# Altium schematic symbol library analog.SchLib: 53 symbols
Pins are listed as number, name and electrical type; pins without a type are passive.

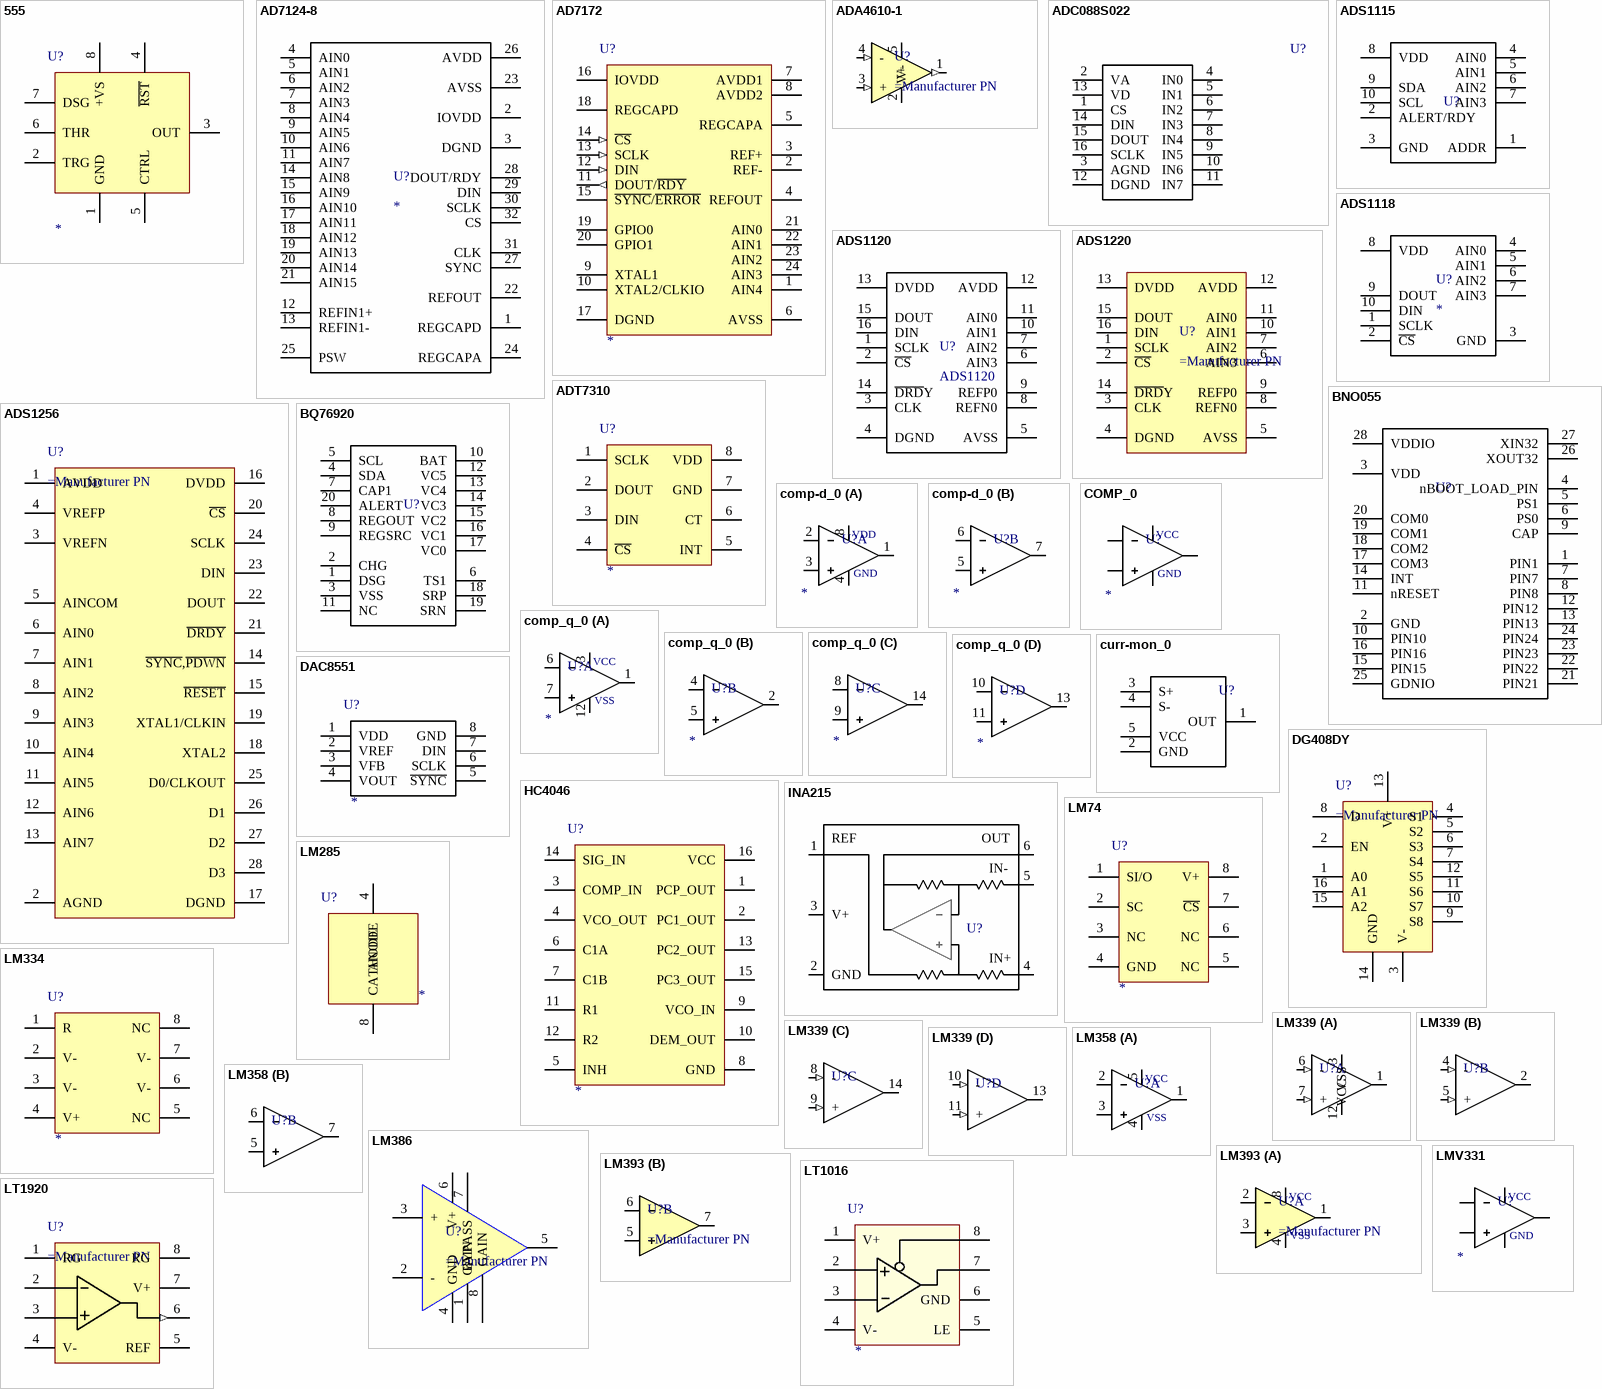
[diagram p0: symbols 555 to LT1920]

## 555
designator U?
555 Timer; Manufacturer PN: *
pins: 1 GND, 2 TRG, 3 OUT, 4 ~{RST}, 5 CTRL, 6 THR, 7 DSG, 8 +VS

## AD7124-8
designator U?
pins: 1 REGCAPD, 2 IOVDD, 3 DGND, 4 AIN0, 5 AIN1, 6 AIN2, 7 AIN3, 8 AIN4, 9 AIN5, 10 AIN6, 11 AIN7, 12 REFIN1+, 13 REFIN1-, 14 AIN8, 15 AIN9, 16 AIN10, 17 AIN11, 18 AIN12, 19 AIN13, 20 AIN14, 21 AIN15, 22 REFOUT, 23 AVSS, 24 REGCAPA, 25 PSW, 26 AVDD, 27 SYNC, 28 DOUT/RDY, 29 DIN, 30 SCLK, 31 CLK, 32 CS

## AD7172
designator U?
ADC 24-bit 4-channel; Manufacturer PN: *
pins: 1 AIN4, 2 REF-, 3 REF+, 4 REFOUT, 5 REGCAPA, 6 AVSS (power), 7 AVDD1 (power), 8 AVDD2 (power), 9 XTAL1, 10 XTAL2/CLKIO, 11 DOUT/~{RDY} (out), 12 DIN (in), 13 SCLK (in), 14 ~{CS} (in), 15 ~{SYNC}/~{ERROR}, 16 IOVDD (power), 17 DGND (power), 18 REGCAPD, 19 GPIO0, 20 GPIO1, 21 AIN0, 22 AIN1, 23 AIN2, 24 AIN3

## ADA4610-1
designator U?
Single JFET Op Amp
pins: 1 (out), 2 V- (power), 3 + (in), 4 - (in), 5 V+ (power)

## ADC088S022
designator U?  (value not drawn)
pins: 1 CS, 2 VA, 3 AGND, 4 IN0, 5 IN1, 6 IN2, 7 IN3, 8 IN4, 9 IN5, 10 IN6, 11 IN7, 12 DGND, 13 VD, 14 DIN, 15 DOUT, 16 SCLK

## ADS1115
designator U?  (value not drawn)
pins: 1 ADDR, 2 ALERT/RDY, 3 GND, 4 AIN0, 5 AIN1, 6 AIN2, 7 AIN3, 8 VDD, 9 SDA, 10 SCL

## ADS1118
designator U?
footprint VSSOP-10_0 (TSSOP, 10-Leads, Body 3.00x3.00mm, Pitch 0.50mm, IPC Medium Density)
footprint 10-XFQFN
pins: 1 SCLK, 2 ~{CS}, 3 GND, 4 AIN0, 5 AIN1, 6 AIN2, 7 AIN3, 8 VDD, 9 DOUT, 10 DIN

## ADS1120
designator U?
Datasheet Link: http://www.ti.com/lit/ds/symlink/ads1120.pdf
footprint tssop-16_0 (TSSOP-16 No Pad)
pins: 1 SCLK, 2 ~{CS}, 3 CLK, 4 DGND, 5 AVSS, 6 AIN3, 7 AIN2, 8 REFN0, 9 REFP0, 10 AIN1, 11 AIN0, 12 AVDD, 13 DVDD, 14 ~{DRD}Y, 15 DOUT, 16 DIN

## ADS1220
designator U?
24-bit ADC
pins: 1 SCLK, 2 ~{CS}, 3 CLK, 4 DGND, 5 AVSS, 6 AIN3, 7 AIN2, 8 REFN0, 9 REFP0, 10 AIN1, 11 AIN0, 12 AVDD, 13 DVDD, 14 ~{DRD}Y, 15 DOUT, 16 DIN

## ADS1256
designator U?
24-bit ADC
pins: 1 AVDD, 2 AGND, 3 VREFN, 4 VREFP, 5 AINCOM, 6 AIN0, 7 AIN1, 8 AIN2, 9 AIN3, 10 AIN4, 11 AIN5, 12 AIN6, 13 AIN7, 14 ~{SYNC},~{PDWN}, 15 ~{RESET}, 16 DVDD, 17 DGND, 18 XTAL2, 19 XTAL1/CLKIN, 20 ~{CS}, 21 ~{DRDY}, 22 DOUT, 23 DIN, 24 SCLK, 25 D0/CLKOUT, 26 D1, 27 D2, 28 D3

## ADT7310
designator U?
+/-0.5°C Accurate, 16-bit Digital SPI Temperature Sensor; Manufacturer PN: *
pins: 1 SCLK, 2 DOUT, 3 DIN, 4 ~{CS}, 5 INT, 6 CT, 7 GND, 8 VDD

## BNO055
designator U?  (value not drawn)
Sensor, 9-Axis IMU, BNO055, LGA28
pins: 1 PIN1, 2 GND, 3 VDD, 4 nBOOT_LOAD_PIN, 5 PS1, 6 PS0, 7 PIN7, 8 PIN8, 9 CAP, 10 PIN10, 11 nRESET, 12 PIN12, 13 PIN13, 14 INT, 15 PIN15, 16 PIN16, 17 COM3, 18 COM2, 19 COM1, 20 COM0, 21 PIN21, 22 PIN22, 23 PIN23, 24 PIN24, 25 GDNIO, 26 XOUT32, 27 XIN32, 28 VDDIO

## BQ76920
designator U?  (value not drawn)
footprint TSSOP-20_0 (TSOP, 20-Leads, Body 6.50x4.40mm, Pitch 0.65mm, IPC Medium Density)
pins: 1 DSG, 2 CHG, 3 VSS, 4 SDA, 5 SCL, 6 TS1, 7 CAP1, 8 REGOUT, 9 REGSRC, 10 BAT, 11 NC, 12 VC5, 13 VC4, 14 VC3, 15 VC2, 16 VC1, 17 VC0, 18 SRP, 19 SRN, 20 ALERT

## comp-d_0
designator U?
Dual Comparator, Generic; Manufacturer PN: *
part A pins: 1, 2, 3, 4, 8
part B pins: 5, 6, 7
part A text: VDD; GND

## COMP_0
designator U?
Comparator, Single, Generic; Manufacturer PN: *
pins: 1, 2, 3, 4, 5
text: VCC; GND

## comp_q_0
designator U?
Quad Comparator, Generic; Manufacturer PN: *
part A pins: 1, 3, 6, 7, 12
part B pins: 2, 4, 5
part C pins: 8, 9, 14
part D pins: 10, 11, 13
part A text: VCC; VSS

## curr-mon_0
designator U?  (value not drawn)
High Side Current Monitor, 5 pin
pins: 1 OUT, 2 GND, 3 S+, 4 S-, 5 VCC

## DAC8551
designator U?
DAC, Voltage output, 16-bit, SPI; Manufacturer PN: *
footprint VSSOP-8_0
pins: 1 VDD, 2 VREF, 3 VFB, 4 VOUT, 5 ~{SYNC}, 6 SCLK, 7 DIN, 8 GND

## DG408DY
designator U?
pins: 1 A0, 2 EN, 3 V-, 4 S1, 5 S2, 6 S3, 7 S4, 8 D, 9 S8, 10 S7, 11 S6, 12 S5, 13 V+, 14 GND, 15 A2, 16 A1

## HC4046
designator U?
PLL, 4046; Manufacturer PN: *
pins: 1 PCP_OUT, 2 PC1_OUT, 3 COMP_IN, 4 VCO_OUT, 5 INH, 6 C1A, 7 C1B, 8 GND, 9 VCO_IN, 10 DEM_OUT, 11 R1, 12 R2, 13 PC2_OUT, 14 SIG_IN, 15 PC3_OUT, 16 VCC

## INA215
designator U?  (value not drawn)
Bidirectional Current Shunt Monitor
pins: 1 REF, 2 GND, 3 V+, 4 IN+, 5 IN-, 6 OUT

## LM74
designator U?
SPI 12-bit Temperature Sensor; Manufacturer PN: *
pins: 1 SI/O, 2 SC, 3 NC, 4 GND, 5 NC, 6 NC, 7 ~{CS}, 8 V+

## LM285
designator U?
Micropower Voltage Reference, includes LM385; Manufacturer PN: *
pins: 1 NC hidden, 2 NC hidden, 3 NC hidden, 4 ANODE, 5 NC hidden, 6 NC hidden, 7 NC hidden, 8 CATHODE

## LM334
designator U?
Adj. Current Source; Manufacturer PN: *
pins: 1 R, 2 V-, 3 V-, 4 V+, 5 NC, 6 V-, 7 V-, 8 NC

## LM339
designator U?  (value not drawn)
Quad Comparator, LM339
part A pins: 1 (oc), 3 VCC, 6 - (in), 7 + (in), 12 VSS
part B pins: 2 (oc), 4 - (in), 5 + (in)
part C pins: 8 - (in), 9 + (in), 14 (oc)
part D pins: 10 - (in), 11 + (in), 13 (oc)

## LM358
designator U?  (value not drawn)
Dual Op Amp, 1.1MHz, General Purpose, LM358
part A pins: 1, 2, 3, 4, 5
part B pins: 5, 6, 7
part A text: VCC; VSS

## LM386
designator U?
Audio Amplifier
pins: 1 GAIN, 2 -, 3 +, 4 GND, 5 OUT, 6 V+, 7 BYPASS, 8 GAIN

## LM393
designator U?
part A pins: 1, 2, 3, 4, 8
part B pins: 5, 6, 7
part A text: VCC; VSS

## LMV331
designator U?
Comparator, LM331, SOT-23-5; Manufacturer PN: *
footprint sot-23-5 (SOT23, 5-Leads, Body 2.90x2.80mm, Pitch 0.95mm, IPC Medium Density)
pins: 1, 2, 3, 4, 5
text: VCC; GND

## LT1016
designator U?
Comparator, Single, UltraFast; Manufacturer PN: *
pins: 1 V+, 2 +, 3 -, 4 V-, 5 LE, 6 GND, 7 Q, 8 ~{Q}

## LT1920
designator U?
Instrumentation Op Amp, Single
pins: 1 RG, 2 -IN, 3 +IN, 4 V- (power), 5 REF, 6 OUT (out), 7 V+ (power), 8 RG

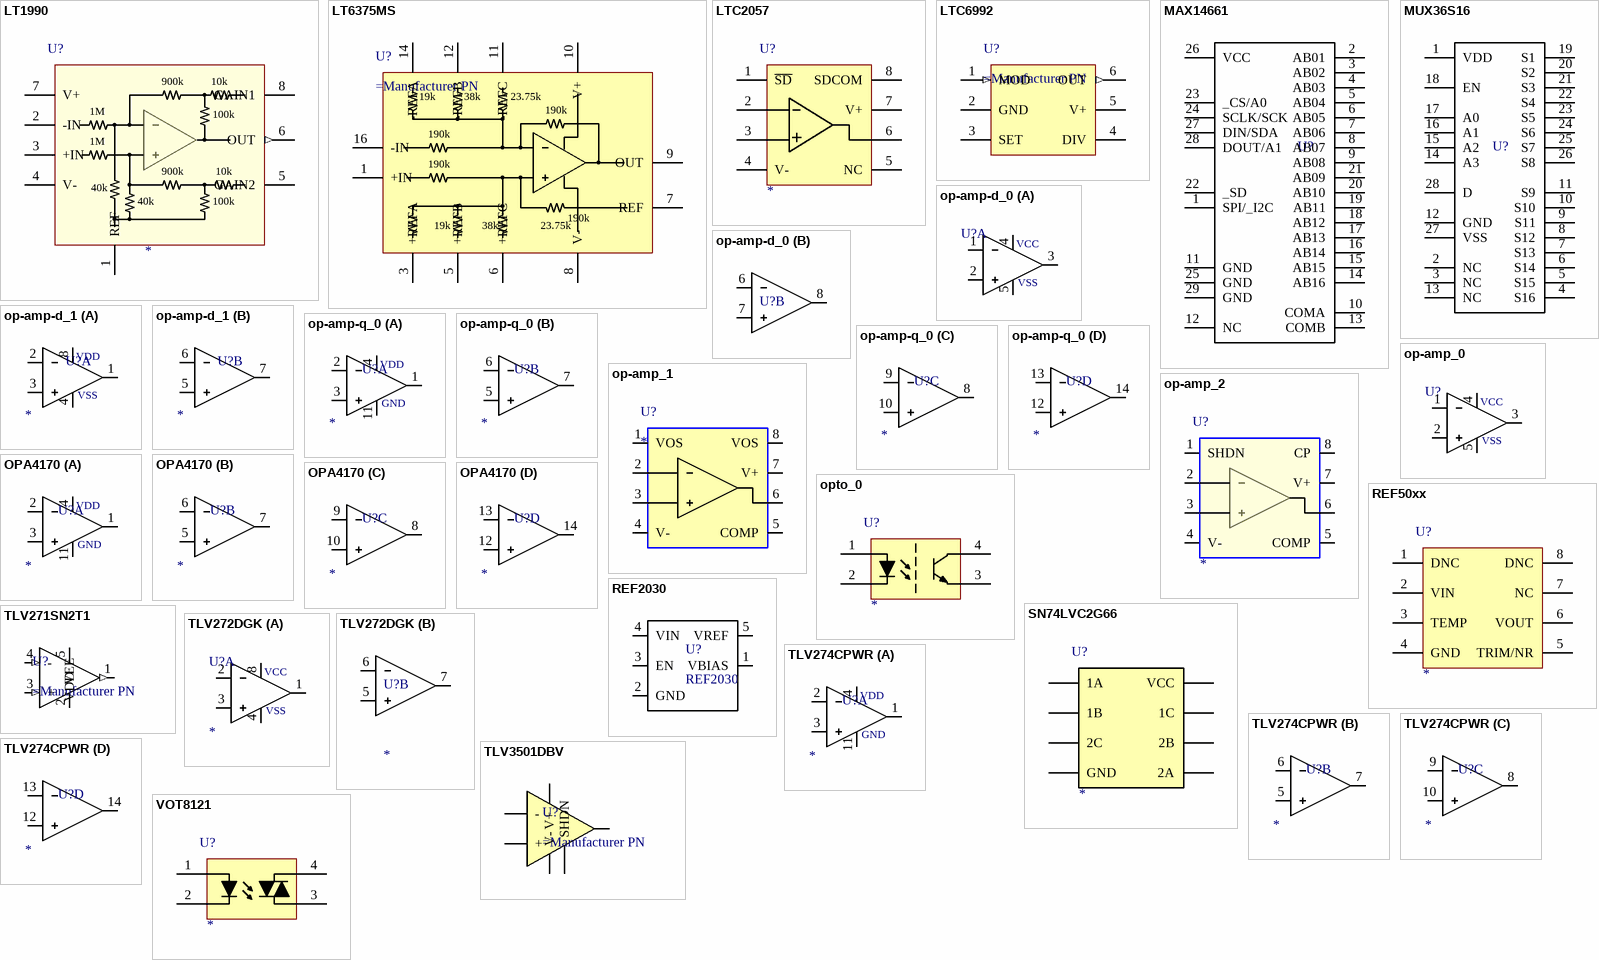
[diagram p1: symbols LT1990 to VOT8121]

## LT1990
designator U?
High Voltage Diff Amp; Manufacturer PN: *
pins: 1 REF, 2 -IN, 3 +IN, 4 V- (power), 5 GAIN2, 6 OUT (out), 7 V+ (power), 8 GAIN1
text: 900k; 10k; 1M; 100k; 40k

## LT6375MS
designator U?
High Voltage Diff Amp, MS package
pins: 1 +IN, 3 +REFA, 5 +REFB, 6 +REFC, 7 REF, 8 V-, 9 OUT, 10 V+, 11 -REFC, 12 -REFB, 14 -REFA, 16 -IN
text: 19k; 38k; 23.75k; 190k

## LTC2057
designator U?
Op-Amp, Single, 8-pin, LTC2057; Manufacturer PN: *
pins: 1 ~{SD}, 2 -IN, 3 +IN, 4 V-, 5 NC, 6 OUT, 7 V+, 8 SDCOM

## LTC6992
designator U?
Voltage-Controlled PWM
pins: 1 MOD (in), 2 GND (power), 3 SET, 4 DIV, 5 V+ (power), 6 OUT (out)

## MAX14661
designator U?  (value not drawn)
Analog Mux, 16:2, Beyond the Rails, MAX14661
pins: 1 SPI/_I2C, 2 AB01, 3 AB02, 4 AB03, 5 AB04, 6 AB05, 7 AB06, 8 AB07, 9 AB08, 10 COMA, 11 GND, 12 NC, 13 COMB, 14 AB16, 15 AB15, 16 AB14, 17 AB13, 18 AB12, 19 AB11, 20 AB10, 21 AB09, 22 _SD, 23 _CS/A0, 24 SCLK/SCK, 25 GND, 26 VCC, 27 DIN/SDA, 28 DOUT/A1, 29 GND

## MUX36S16
designator U?  (value not drawn)
pins: 1 VDD, 2 NC, 3 NC, 4 S16, 5 S15, 6 S14, 7 S13, 8 S12, 9 S11, 10 S10, 11 S9, 12 GND, 13 NC, 14 A3, 15 A2, 16 A1, 17 A0, 18 EN, 19 S1, 20 S2, 21 S3, 22 S4, 23 S5, 24 S6, 25 S7, 26 S8, 27 VSS, 28 D

## op-amp-d_0
designator U?  (value not drawn)
Dual Op Amp, Generic
footprint so-8 (SO-8 Package); pin to pad 1>2 2>3 3>1 4>8 5>4 7>5 8>7
part A pins: 1, 2, 3, 4, 5
part B pins: 6, 7, 8
part A text: VCC; VSS

## op-amp-d_1
designator U?
Dual Op Amp, Generic; Manufacturer PN: *
part A pins: 1, 2, 3, 4, 8
part B pins: 5, 6, 7
part A text: VDD; VSS

## op-amp-q_0
designator U?
Op Amp, Quad, Generic; Manufacturer PN: *
footprint TSSOP-14_0
part A pins: 1, 2, 3, 4, 11
part B pins: 5, 6, 7
part C pins: 8, 9, 10
part D pins: 12, 13, 14
part A text: VDD; GND

## op-amp_0
designator U?  (value not drawn)
Op Amp, Generic
footprint sot-25 (SOT23 Package); pin to pad 1>4 2>3 3>1 4>5 5>2
pins: 1, 2, 3, 4, 5
text: VCC; VSS

## op-amp_1
designator U?
Op Amp, Generic, 8-pin; Manufacturer PN: *
pins: 1 VOS, 2, 3, 4 V-, 5 COMP, 6, 7 V+, 8 VOS

## op-amp_2
designator U?
Op Amp, Generic, 8-pin; Manufacturer PN: *
pins: 1 SHDN, 2, 3, 4 V-, 5 COMP, 6, 7 V+, 8 CP

## OPA4170
designator U?
Manufacturer PN: *
footprint TSSOP-14_0
footprint SO-14 (SOIC, 14-Leads, Body 8.65x3.90mm, Pitch 1.27mm, IPC Medium Density)
part A pins: 1, 2, 3, 4, 11
part B pins: 5, 6, 7
part C pins: 8, 9, 10
part D pins: 12, 13, 14
part A text: VDD; GND

## opto_0
designator U?
Generic 4-Pin Opto-Coupler; Manufacturer PN: *
pins: 1 A, 2 A, 3 E, 4 C

## REF50xx
designator U?
REF50xx Series Voltage Reference; Manufacturer PN: *
pins: 1 DNC (power), 2 VIN (power), 3 TEMP (power), 4 GND (power), 5 TRIM/NR (power), 6 VOUT (power), 7 NC (power), 8 DNC (power)

## REF2030
designator U?
Low Drift Dual Output VREF VREF/2 Reference (3V)
pins: 1 VBIAS, 2 GND, 3 EN, 4 VIN, 5 VREF

## SN74LVC2G66
designator U?
Manufacturer PN: *
pins: 1 1A, 2 1B, 3 2C, 4 GND, 5 2A, 6 2B, 7 1C, 8 VCC

## TLV271SN2T1
designator U?
ON Semi TLV271 (SN2T1 pinout)
pins: 1 (out), 2 VEE (power), 3 + (in), 4 - (in), 5 VDD

## TLV272DGK
designator U?
TLV272DGK type, Dual Op Amp; Manufacturer PN: *
footprint VSSOP-8_0
part A pins: 1, 2, 3, 4, 8
part B pins: 5, 6, 7
part A text: VCC; VSS

## TLV274CPWR
designator U?
Manufacturer PN: *
footprint TSSOP-14_0
part A pins: 1, 2, 3, 4, 11
part B pins: 5, 6, 7
part C pins: 8, 9, 10
part D pins: 12, 13, 14
part A text: VDD; GND

## TLV3501DBV
designator U?
6-pin TLV3501
pins: 1 -, 2 V-, 3 +, 4 V+, 5 OUT, 6 SHDN

## VOT8121
designator U?
4-pin Opto-Triac; Manufacturer PN: *
pins: 1 A, 2 C, 3 MT1, 4 MT2